# Altium schematic symbol library SCH - POWER - SWITCHMODE - TI TPS40210-HT_HKK_10.SchLib: 1 symbol
Pins are listed as number, name and electrical type; pins without a type are passive.

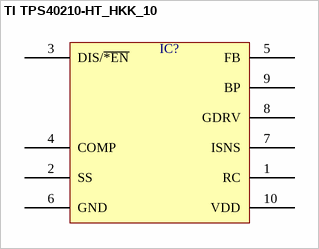
[diagram p0: symbol TI TPS40210-HT_HKK_10]

## TI TPS40210-HT_HKK_10
designator IC?  (value not drawn)
pins: 1 RC, 2 SS, 3 DIS/~{*EN}, 4 COMP, 5 FB, 6 GND, 7 ISNS, 8 GDRV, 9 BP, 10 VDD